# EAGLE library part SN65HVD33 (library bschulz)
SN65HVD33 - Full Duplex RS-485 Tranciver, with output enable Characteristics: VCC: 3~3.6V Operating Temperature: -40°C to 85°C Signaling Rate: 1, 5, 26 Mbps (depending on model) Digikey: 296-24087-1-ND (RHL) <https://www.digikey.com/product-detail/en/texas-instruments/SN65HVD33RHLR/296-24087-1-ND/1991606> 296-18704-1-ND (D) <https://www.digikey.com/product-detail/en/texas-instruments/SN65HVD33DR/296-18704-1-ND/863533>
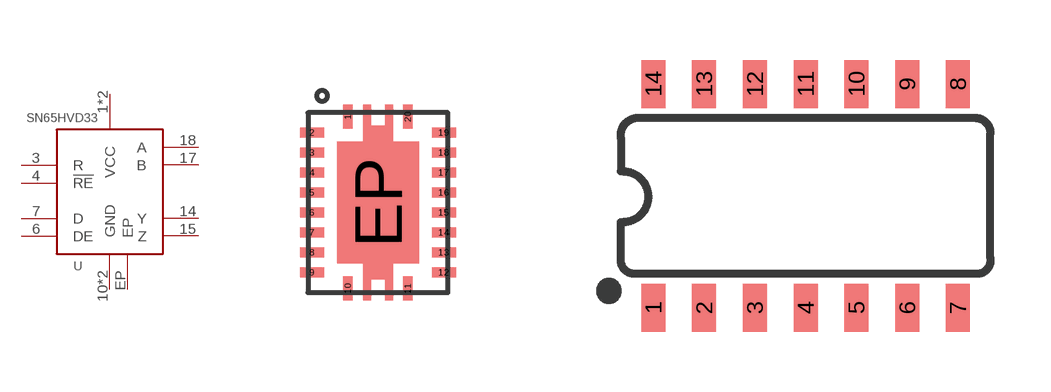
[diagram p57: symbol with the pads of VQFN-20_POWER; footprints VQFN-20_POWER, SO14]

Designator prefix U

## SN65HVD33RHL (DIGIKEY: 296-24087-1-ND; MF: TI; MPN: SN65HVD33RHLR)  [VQFN-20_POWER]
1  VCC  pwr
3  R  out
4  !RE  in
6  DE  in
7  D  in
10  GND  pwr
11  GND  pwr
14  Y
15  Z
17  B
18  A
20  VCC  pwr
EP  EP  nc

## SN65HVD33D (DIGIKEY: 296-18704-1-ND; MF: TI; MPN: SN65HVD33DR)  [SO14]
1  EP  nc
2  R  out
3  !RE  in
4  DE  in
5  D  in
6  GND  pwr
7  GND  pwr
8  EP  nc
9  Y
10  Z
11  B
12  A
13  VCC  pwr
14  VCC  pwr

## Footprint VQFN-20_POWER (pad centres in mm)
smd 0.24 x 0.6: 1 -0.75,2.15; 10 -0.75,-2.15; 11 0.75,-2.15; 20 0.75,2.15
smd 0.6 x 0.24: 2 -1.65,1.75; 3 -1.65,1.25; 4 -1.65,0.75; 5 -1.65,0.25; 6 -1.65,-0.25; 7 -1.65,-0.75; 8 -1.65,-1.25; 9 -1.65,-1.75; 12 1.65,-1.75; 13 1.65,-1.25; 14 1.65,-0.75; 15 1.65,-0.25; 16 1.65,0.25; 17 1.65,0.75; 18 1.65,1.25; 19 1.65,1.75
smd 2.05 x 3.05: EP 0,0

## Footprint SO14 (pad centres in mm)
SOIC, 0.15 inch width
smd 0.6 x 1.2: 1 -3.175,-2.8; 2 -1.905,-2.8; 3 -0.635,-2.8; 4 0.635,-2.8; 5 1.905,-2.8; 6 3.175,-2.8; 7 4.445,-2.8; 8 4.445,2.8; 9 3.175,2.8; 10 1.905,2.8; 11 0.635,2.8; 12 -0.635,2.8; 13 -1.905,2.8; 14 -3.175,2.8